# Altium footprint library 5200.PcbLib: 38 footprints (part 1 of 3)
Each footprint in its own frame and in the unit in brackets; x right, y up, seen from the top. Pads: shape width x height; smd on the part's side, far side on the other; paste and mask are expansions set on the pad; w line width, h text height; cw(c..) or ccw(c..) is an arc to the next point about the centre after c.
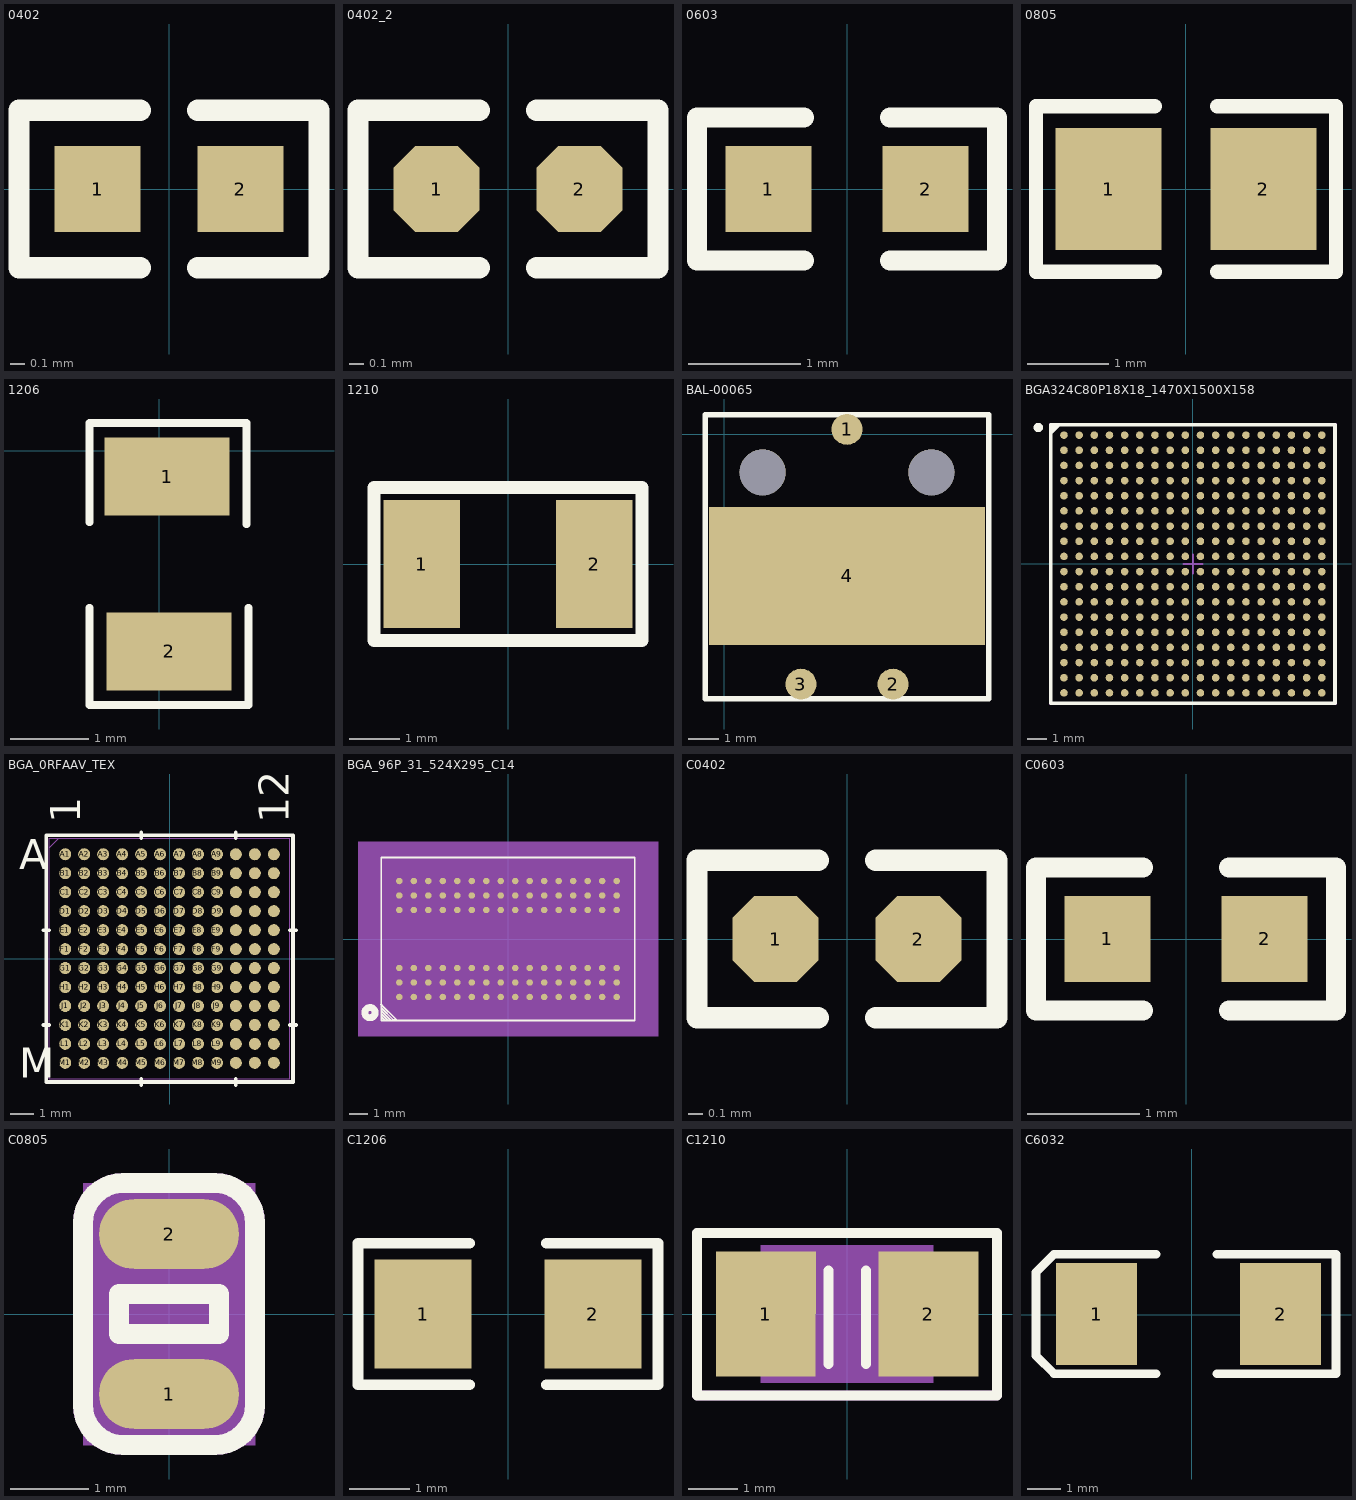
[diagram p0: the footprints below, top view; thin cyan lines are the x and y axes]

## 0402 [mm]
pads (2):
  rect 0.6x0.6 smd: 1(-0.5,0) 2(0.5,0)
Top Overlay:
  lines w0.15: -0.2,-0.55 -1.05,-0.55 -1.05,0.55 -0.2,0.55 ; 0.2,-0.55 1.05,-0.55 1.05,0.55 0.2,0.55

## 0402_2 [mm]
pads (2):
  oct 0.6x0.6 smd: 1(-0.5,0) 2(0.5,0)
Top Overlay:
  lines w0.15: -0.2,-0.55 -1.05,-0.55 -1.05,0.55 -0.2,0.55 ; 0.2,-0.55 1.05,-0.55 1.05,0.55 0.2,0.55

## 0603 [mil]
pads (2):
  rect 30x30 smd: 1(-27.5,0) 2(27.5,0)
Top Overlay:
  lines w7: -15,-25 -52.5,-25 -52.5,25 -15,25 ; 15,-25 52.5,-25 52.5,25 15,25

## 0805 [mm]
pads (2):
  rect 1.3x1.5 smd: 1(-0.95,0) 2(0.95,0)
Top Overlay:
  lines w0.178: -0.381,-1.019 -1.841,-1.019 -1.841,1.019 -0.381,1.019 ; 0.381,-1.019 1.842,-1.019 1.842,1.019 0.381,1.019

## 1206 [mm]
height 1.25
pads (2):
  rect 1.6x1 smd: 1(0.102,-0.33) 2(0.127,-2.565)
Top Overlay:
  lines w0.1: -0.889,-2.007 -0.889,-3.251 1.143,-3.251 1.143,-2.007 ; -0.889,-0.914 -0.889,0.356 1.118,0.356 1.118,-0.94

## 1210 [mil]
pads (2):
  rect 60x100 smd: 1(-67.5,0) 2(67.5,0)
Top Overlay:
  lines w10: -105,-60 105,-60 105,60 -105,60 -105,-60

## BAL-00065 [mil]
pads (6):
  round 40.2 smd mask+4: 1(160,6) 2(220,-326) 3(100,-326)
  rect 360x180 smd mask+4: 4(160,-185)
  round 60 hole 60 unplated mask+4: ""(50,-50) ""(270,-50)
Top Overlay:
  lines w7: -25,-345 -25,25 345,25 345,-345 -25,-345
Drill Drawing:
  lines w7: 0,-320 0,0 320,0 320,-320 0,-320

## BGA324C80P18X18_1470X1500X158 [mm] "BGA, 324-Leads, Body 14.7x15.0mm,  Pitch 0.80mm"
height 1.58
pads (324):
  round 0.4 smd: A1(-6.8,6.8) A2(-6,6.8) A3(-5.2,6.8) A4(-4.4,6.8) A5(-3.6,6.8) A6(-2.8,6.8) A7(-2,6.8) A8(-1.2,6.8) A9(-0.4,6.8) A10(0.4,6.8) A11(1.2,6.8) A12(2,6.8) A13(2.8,6.8) A14(3.6,6.8) A15(4.4,6.8) A16(5.2,6.8) A17(6,6.8) A18(6.8,6.8) B1(-6.8,6) B2(-6,6) B3(-5.2,6) B4(-4.4,6) B5(-3.6,6) B6(-2.8,6) B7(-2,6) B8(-1.2,6) B9(-0.4,6) B10(0.4,6) B11(1.2,6) B12(2,6) B13(2.8,6) B14(3.6,6) B15(4.4,6) B16(5.2,6) B17(6,6) B18(6.8,6) C1(-6.8,5.2) C2(-6,5.2) C3(-5.2,5.2) C4(-4.4,5.2) C5(-3.6,5.2) C6(-2.8,5.2) C7(-2,5.2) C8(-1.2,5.2) C9(-0.4,5.2) C10(0.4,5.2) C11(1.2,5.2) C12(2,5.2) C13(2.8,5.2) C14(3.6,5.2) C15(4.4,5.2) C16(5.2,5.2) C17(6,5.2) C18(6.8,5.2) D1(-6.8,4.4) D2(-6,4.4) D3(-5.2,4.4) D4(-4.4,4.4) D5(-3.6,4.4) D6(-2.8,4.4) D7(-2,4.4) D8(-1.2,4.4) D9(-0.4,4.4) D10(0.4,4.4) D11(1.2,4.4) D12(2,4.4) D13(2.8,4.4) D14(3.6,4.4) D15(4.4,4.4) D16(5.2,4.4) D17(6,4.4) D18(6.8,4.4) E1(-6.8,3.6) E2(-6,3.6) E3(-5.2,3.6) E4(-4.4,3.6) E5(-3.6,3.6) E6(-2.8,3.6) E7(-2,3.6) E8(-1.2,3.6) E9(-0.4,3.6) E10(0.4,3.6) E11(1.2,3.6) E12(2,3.6) E13(2.8,3.6) E14(3.6,3.6) E15(4.4,3.6) E16(5.2,3.6) E17(6,3.6) E18(6.8,3.6) F1(-6.8,2.8) F2(-6,2.8) F3(-5.2,2.8) F4(-4.4,2.8) F5(-3.6,2.8) F6(-2.8,2.8) F7(-2,2.8) F8(-1.2,2.8) F9(-0.4,2.8) F10(0.4,2.8) F11(1.2,2.8) F12(2,2.8) F13(2.8,2.8) F14(3.6,2.8) F15(4.4,2.8) F16(5.2,2.8) F17(6,2.8) F18(6.8,2.8) G1(-6.8,2) G2(-6,2) G3(-5.2,2) G4(-4.4,2) G5(-3.6,2) G6(-2.8,2) G7(-2,2) G8(-1.2,2) G9(-0.4,2) G10(0.4,2) G11(1.2,2) G12(2,2) G13(2.8,2) G14(3.6,2) G15(4.4,2) G16(5.2,2) G17(6,2) G18(6.8,2) H1(-6.8,1.2) H2(-6,1.2) H3(-5.2,1.2) H4(-4.4,1.2) H5(-3.6,1.2) H6(-2.8,1.2) H7(-2,1.2) H8(-1.2,1.2) H9(-0.4,1.2) H10(0.4,1.2) H11(1.2,1.2) H12(2,1.2) H13(2.8,1.2) H14(3.6,1.2) H15(4.4,1.2) H16(5.2,1.2) H17(6,1.2) H18(6.8,1.2) J1(-6.8,0.4) J2(-6,0.4) J3(-5.2,0.4) J4(-4.4,0.4) J5(-3.6,0.4) J6(-2.8,0.4) J7(-2,0.4) J8(-1.2,0.4) J9(-0.4,0.4) J10(0.4,0.4) J11(1.2,0.4) J12(2,0.4) J13(2.8,0.4) J14(3.6,0.4) J15(4.4,0.4) J16(5.2,0.4) J17(6,0.4) J18(6.8,0.4) K1(-6.8,-0.4) K2(-6,-0.4) K3(-5.2,-0.4) K4(-4.4,-0.4) K5(-3.6,-0.4) K6(-2.8,-0.4) K7(-2,-0.4) K8(-1.2,-0.4) K9(-0.4,-0.4) K10(0.4,-0.4) K11(1.2,-0.4) K12(2,-0.4) K13(2.8,-0.4) K14(3.6,-0.4) K15(4.4,-0.4) K16(5.2,-0.4) K17(6,-0.4) K18(6.8,-0.4) L1(-6.8,-1.2) L2(-6,-1.2) L3(-5.2,-1.2) L4(-4.4,-1.2) L5(-3.6,-1.2) L6(-2.8,-1.2) L7(-2,-1.2) L8(-1.2,-1.2) L9(-0.4,-1.2) L10(0.4,-1.2) L11(1.2,-1.2) L12(2,-1.2) L13(2.8,-1.2) L14(3.6,-1.2) L15(4.4,-1.2) L16(5.2,-1.2) L17(6,-1.2) L18(6.8,-1.2) M1(-6.8,-2) M2(-6,-2) M3(-5.2,-2) M4(-4.4,-2) M5(-3.6,-2) M6(-2.8,-2) M7(-2,-2) M8(-1.2,-2) M9(-0.4,-2) M10(0.4,-2) M11(1.2,-2) M12(2,-2) M13(2.8,-2) M14(3.6,-2) M15(4.4,-2) M16(5.2,-2) M17(6,-2) M18(6.8,-2) N1(-6.8,-2.8) N2(-6,-2.8) N3(-5.2,-2.8) N4(-4.4,-2.8) N5(-3.6,-2.8) N6(-2.8,-2.8) N7(-2,-2.8) N8(-1.2,-2.8) N9(-0.4,-2.8) N10(0.4,-2.8) N11(1.2,-2.8) N12(2,-2.8) N13(2.8,-2.8) N14(3.6,-2.8) N15(4.4,-2.8) N16(5.2,-2.8) N17(6,-2.8) N18(6.8,-2.8) P1(-6.8,-3.6) P2(-6,-3.6) P3(-5.2,-3.6) P4(-4.4,-3.6) P5(-3.6,-3.6) P6(-2.8,-3.6) P7(-2,-3.6) P8(-1.2,-3.6) P9(-0.4,-3.6) P10(0.4,-3.6) P11(1.2,-3.6) P12(2,-3.6) P13(2.8,-3.6) P14(3.6,-3.6) P15(4.4,-3.6) P16(5.2,-3.6) P17(6,-3.6) P18(6.8,-3.6) R1(-6.8,-4.4) R2(-6,-4.4) R3(-5.2,-4.4) R4(-4.4,-4.4) R5(-3.6,-4.4) R6(-2.8,-4.4) R7(-2,-4.4) R8(-1.2,-4.4) R9(-0.4,-4.4) R10(0.4,-4.4) R11(1.2,-4.4) R12(2,-4.4) R13(2.8,-4.4) R14(3.6,-4.4) R15(4.4,-4.4) R16(5.2,-4.4) R17(6,-4.4) R18(6.8,-4.4) T1(-6.8,-5.2) T2(-6,-5.2) T3(-5.2,-5.2) T4(-4.4,-5.2) T5(-3.6,-5.2) T6(-2.8,-5.2) T7(-2,-5.2) T8(-1.2,-5.2) T9(-0.4,-5.2) T10(0.4,-5.2) T11(1.2,-5.2) T12(2,-5.2) T13(2.8,-5.2) T14(3.6,-5.2) T15(4.4,-5.2) T16(5.2,-5.2) T17(6,-5.2) T18(6.8,-5.2) U1(-6.8,-6) U2(-6,-6) U3(-5.2,-6) U4(-4.4,-6) U5(-3.6,-6) U6(-2.8,-6) U7(-2,-6) U8(-1.2,-6) U9(-0.4,-6) U10(0.4,-6) U11(1.2,-6) U12(2,-6) U13(2.8,-6) U14(3.6,-6) U15(4.4,-6) U16(5.2,-6) U17(6,-6) U18(6.8,-6) V1(-6.8,-6.8) V2(-6,-6.8) V3(-5.2,-6.8) V4(-4.4,-6.8) V5(-3.6,-6.8) V6(-2.8,-6.8) V7(-2,-6.8) V8(-1.2,-6.8) V9(-0.4,-6.8) V10(0.4,-6.8) V11(1.2,-6.8) V12(2,-6.8) V13(2.8,-6.8) V14(3.6,-6.8) V15(4.4,-6.8) V16(5.2,-6.8) V17(6,-6.8) V18(6.8,-6.8)
Top Overlay:
  circle w0.25: c-8.15,7.2 r0.125
  region: -7.057,7.35 -7.5,6.907 -7.5,7.35
  lines w0.2: -7.5,6.907 -7.057,7.35 ; -7.5,-7.35 -7.5,7.35 7.5,7.35 7.5,-7.35 -7.5,-7.35
Mechanical 13:
  lines w0.1: -7.5,-7.35 -7.5,7.35 7.5,7.35 7.5,-7.35 -7.5,-7.35
Mechanical 15:
  lines w0.1: -0.5,0 0.5,0 ; 0,-0.5 0,0.5 ; -7.55,-7.4 -7.55,7.4 7.55,7.4 7.55,-7.4 -7.55,-7.4
3D body: height 1.58, standoff 0.35, extent -7.5,-7.35 7.5,7.35

## BGA_0RFAAV_TEX [mm]
pads (144):
  round 0.508 smd paste+0 mask+0: A1(-4.4,4.4) A2(-3.6,4.4) A3(-2.8,4.4) A4(-2,4.4) A5(-1.2,4.4) A6(-0.4,4.4) A7(0.4,4.4) A8(1.2,4.4) A9(2,4.4) A10(2.8,4.4) A11(3.6,4.4) A12(4.4,4.4) B1(-4.4,3.6) B2(-3.6,3.6) B3(-2.8,3.6) B4(-2,3.6) B5(-1.2,3.6) B6(-0.4,3.6) B7(0.4,3.6) B8(1.2,3.6) B9(2,3.6) B10(2.8,3.6) B11(3.6,3.6) B12(4.4,3.6) C1(-4.4,2.8) C2(-3.6,2.8) C3(-2.8,2.8) C4(-2,2.8) C5(-1.2,2.8) C6(-0.4,2.8) C7(0.4,2.8) C8(1.2,2.8) C9(2,2.8) C10(2.8,2.8) C11(3.6,2.8) C12(4.4,2.8) D1(-4.4,2) D2(-3.6,2) D3(-2.8,2) D4(-2,2) D5(-1.2,2) D6(-0.4,2) D7(0.4,2) D8(1.2,2) D9(2,2) D10(2.8,2) D11(3.6,2) D12(4.4,2) E1(-4.4,1.2) E2(-3.6,1.2) E3(-2.8,1.2) E4(-2,1.2) E5(-1.2,1.2) E6(-0.4,1.2) E7(0.4,1.2) E8(1.2,1.2) E9(2,1.2) E10(2.8,1.2) E11(3.6,1.2) E12(4.4,1.2) F1(-4.4,0.4) F2(-3.6,0.4) F3(-2.8,0.4) F4(-2,0.4) F5(-1.2,0.4) F6(-0.4,0.4) F7(0.4,0.4) F8(1.2,0.4) F9(2,0.4) F10(2.8,0.4) F11(3.6,0.4) F12(4.4,0.4) G1(-4.4,-0.4) G2(-3.6,-0.4) G3(-2.8,-0.4) G4(-2,-0.4) G5(-1.2,-0.4) G6(-0.4,-0.4) G7(0.4,-0.4) G8(1.2,-0.4) G9(2,-0.4) G10(2.8,-0.4) G11(3.6,-0.4) G12(4.4,-0.4) H1(-4.4,-1.2) H2(-3.6,-1.2) H3(-2.8,-1.2) H4(-2,-1.2) H5(-1.2,-1.2) H6(-0.4,-1.2) H7(0.4,-1.2) H8(1.2,-1.2) H9(2,-1.2) H10(2.8,-1.2) H11(3.6,-1.2) H12(4.4,-1.2) J1(-4.4,-2) J2(-3.6,-2) J3(-2.8,-2) J4(-2,-2) J5(-1.2,-2) J6(-0.4,-2) J7(0.4,-2) J8(1.2,-2) J9(2,-2) J10(2.8,-2) J11(3.6,-2) J12(4.4,-2) K1(-4.4,-2.8) K2(-3.6,-2.8) K3(-2.8,-2.8) K4(-2,-2.8) K5(-1.2,-2.8) K6(-0.4,-2.8) K7(0.4,-2.8) K8(1.2,-2.8) K9(2,-2.8) K10(2.8,-2.8) K11(3.6,-2.8) K12(4.4,-2.8) L1(-4.4,-3.6) L2(-3.6,-3.6) L3(-2.8,-3.6) L4(-2,-3.6) L5(-1.2,-3.6) L6(-0.4,-3.6) L7(0.4,-3.6) L8(1.2,-3.6) L9(2,-3.6) L10(2.8,-3.6) L11(3.6,-3.6) L12(4.4,-3.6) M1(-4.4,-4.4) M2(-3.6,-4.4) M3(-2.8,-4.4) M4(-2,-4.4) M5(-1.2,-4.4) M6(-0.4,-4.4) M7(0.4,-4.4) M8(1.2,-4.4) M9(2,-4.4) M10(2.8,-4.4) M11(3.6,-4.4) M12(4.4,-4.4)
Top Overlay:
  lines w0.152: -5.334,-2.8 -5.08,-2.8 ; -5.334,1.2 -5.08,1.2 ; -1.2,-5.334 -1.2,-5.08 ; -1.2,5.08 -1.2,5.334 ; 2.8,-5.334 2.8,-5.08 ; 2.8,5.08 2.8,5.334 ; 5.08,-2.8 5.334,-2.8 ; 5.08,1.2 5.334,1.2 ; -5.207,-5.207 5.207,-5.207 5.207,5.207 -5.207,5.207 -5.207,-5.207
  text "12" at 5.035,5.715 h1.27
  text "1" at -3.765,5.715 h1.27
  text "M" at -6.35,-5.035 h1.27
  text "A" at -6.35,3.765 h1.27
Bottom Overlay:
  text "12" at 3.765,5.715 h1.27
  text "1" at -5.035,5.715 h1.27
  text "M" at -5.715,-5.035 h1.27
  text "A" at -5.715,3.765 h1.27
Mechanical 13:
  lines w0.025: -5.08,4.68 -4.68,5.08 ; -5.08,-5.08 5.08,-5.08 5.08,5.08 -5.08,5.08 -5.08,-5.08
  text "12" at 5.035,5.715 h1.27
  text "1" at -3.765,5.715 h1.27
  text "M" at -6.35,-5.035 h1.27
  text "A" at -6.35,3.765 h1.27
3D body: height 1.93, standoff 0, extent -5.08,-5.08 5.08,5.08

## BGA_96P_31_524X295_C14 [mil] "BGA_96P_31_524X295_C14"
pads (96):
  round 14 smd: A1(-236.22,-125.98) A2(-236.22,-94.49) A3(-236.22,-62.99) A7(-236.22,62.99) A8(-236.22,94.49) A9(-236.22,125.98) B1(-204.72,-125.98) B2(-204.72,-94.49) B3(-204.72,-62.99) B7(-204.72,62.99) B8(-204.72,94.49) B9(-204.72,125.98) C1(-173.23,-125.98) C2(-173.23,-94.49) C3(-173.23,-62.99) C7(-173.23,62.99) C8(-173.23,94.49) C9(-173.23,125.98) D1(-141.73,-125.98) D2(-141.73,-94.49) D3(-141.73,-62.99) D7(-141.73,62.99) D8(-141.73,94.49) D9(-141.73,125.98) E1(-110.24,-125.98) E2(-110.24,-94.49) E3(-110.24,-62.99) E7(-110.24,62.99) E8(-110.24,94.49) E9(-110.24,125.98) F1(-78.74,-125.98) F2(-78.74,-94.49) F3(-78.74,-62.99) F7(-78.74,62.99) F8(-78.74,94.49) F9(-78.74,125.98) G1(-47.24,-125.98) G2(-47.24,-94.49) G3(-47.24,-62.99) G7(-47.24,62.99) G8(-47.24,94.49) G9(-47.24,125.98) H1(-15.75,-125.98) H2(-15.75,-94.49) H3(-15.75,-62.99) H7(-15.75,62.99) H8(-15.75,94.49) H9(-15.75,125.98) J1(15.75,-125.98) J2(15.75,-94.49) J3(15.75,-62.99) J7(15.75,62.99) J8(15.75,94.49) J9(15.75,125.98) K1(47.24,-125.98) K2(47.24,-94.49) K3(47.24,-62.99) K7(47.24,62.99) K8(47.24,94.49) K9(47.24,125.98) L1(78.74,-125.98) L2(78.74,-94.49) L3(78.74,-62.99) L7(78.74,62.99) L8(78.74,94.49) L9(78.74,125.98) M1(110.24,-125.98) M2(110.24,-94.49) M3(110.24,-62.99) M7(110.24,62.99) M8(110.24,94.49) M9(110.24,125.98) N1(141.73,-125.98) N2(141.73,-94.49) N3(141.73,-62.99) N7(141.73,62.99) N8(141.73,94.49) N9(141.73,125.98) P1(173.23,-125.98) P2(173.23,-94.49) P3(173.23,-62.99) P7(173.23,62.99) P8(173.23,94.49) P9(173.23,125.98) R1(204.72,-125.98) R2(204.72,-94.49) R3(204.72,-62.99) R7(204.72,62.99) R8(204.72,94.49) R9(204.72,125.98) T1(236.22,-125.98) T2(236.22,-94.49) T3(236.22,-62.99) T7(236.22,62.99) T8(236.22,94.49) T9(236.22,125.98)
Top Overlay:
  circle w15: c-300,-160 r11.18
  lines w3.94: -275.98,-142.52 -275.2,-142.52 -241.73,-175.98 -248.82,-175.98 -275.2,-149.61 -275.2,-156.3 -255.12,-176.38 -261.42,-176.38 -274.41,-163.39 -274.41,-170.08 -268.11,-176.38 ; -275.59,-177.16 -275.59,177.16 275.59,177.16 275.59,-177.16 -275.59,-177.16
  text ".Designator" at -306.92,-65.62 h25
Mechanical 5:
  circle w15: c-300,-160 r11.18
  lines w3.94: -275.98,-142.52 -275.2,-142.52 -241.73,-175.98 -248.82,-175.98 -275.2,-149.61 -275.2,-156.3 -255.12,-176.38 -261.42,-176.38 -274.41,-163.39 -274.41,-170.08 -268.11,-176.38 ; -275.59,-177.16 -275.59,177.16 275.59,177.16 275.59,-177.16 -275.59,-177.16
  text "U4" at -362.51,27.5 h25
Mechanical 14:
  text "T9" at 236.22,146.14 h25.2
  text "P9" at 173.23,146.14 h25.2
  text "M9" at 110.24,146.14 h25.2
  text "J8" at 15.75,114.65 h25.2
  text "T1" at 236.22,-105.82 h25.2
  text "P1" at 173.23,-105.82 h25.2
  text "M1" at 110.24,-105.82 h25.2
  text "J2" at 15.75,-74.33 h25.2
  text "A9" at -236.22,146.14 h25.2
  text "B9" at -204.72,146.14 h25.2
  text "B3" at -204.72,-42.83 h25.2
  text "G8" at -47.24,114.65 h25.2
  text "G9" at -47.24,146.14 h25.2
  text "F9" at -78.74,146.14 h25.2
  text "E8" at -110.24,114.65 h25.2
  text "D8" at -141.73,114.65 h25.2
  text "G1" at -47.24,-105.82 h25.2
  text "E1" at -110.24,-105.82 h25.2
  text "E2" at -110.24,-74.33 h25.2
  text "D1" at -141.73,-105.82 h25.2
  text "B1" at -204.72,-105.82 h25.2
  text "L9" at 78.74,146.14 h25.2
  text "L1" at 78.74,-105.82 h25.2
  text "J9" at 15.75,146.14 h25.2
  text "J1" at 15.75,-105.82 h25.2
  text "B7" at -204.72,83.15 h25.2
  text "F3" at -78.74,-42.83 h25.2
  text "P8" at 173.23,114.65 h25.2
  text "H3" at -15.75,-42.83 h25.2
  text "P2" at 173.23,-74.33 h25.2
  text "E3" at -110.24,-42.83 h25.2
  text "A3" at -236.22,-42.83 h25.2
  text "A7" at -236.22,83.15 h25.2
  text "F8" at -78.74,114.65 h25.2
  text "R3" at 204.72,-42.83 h25.2
  text "N7" at 141.73,83.15 h25.2
  text "F7" at -78.74,83.15 h25.2
  text "M7" at 110.24,83.15 h25.2
  text "C3" at -173.23,-42.83 h25.2
  text "D7" at -141.73,83.15 h25.2
  text "T8" at 236.22,114.65 h25.2
  text "P7" at 173.23,83.15 h25.2
  text "T3" at 236.22,-42.83 h25.2
  text "C2" at -173.23,-74.33 h25.2
  text "N2" at 141.73,-74.33 h25.2
  text "G2" at -47.24,-74.33 h25.2
  text "A2" at -236.22,-74.33 h25.2
  text "H7" at -15.75,83.15 h25.2
  text "R8" at 204.72,114.65 h25.2
  text "N3" at 141.73,-42.83 h25.2
  text "F2" at -78.74,-74.33 h25.2
  text "C8" at -173.23,114.65 h25.2
  text "P3" at 173.23,-42.83 h25.2
  text "T2" at 236.22,-74.33 h25.2
  text "B8" at -204.72,114.65 h25.2
  text "H8" at -15.75,114.65 h25.2
  text "L7" at 78.74,83.15 h25.2
  text "R7" at 204.72,83.15 h25.2
  text "R2" at 204.72,-74.33 h25.2
  text "T7" at 236.22,83.15 h25.2
  text "K1" at 47.24,-105.82 h25.2
  text "G3" at -47.24,-42.83 h25.2
  text "C7" at -173.23,83.15 h25.2
  text "L8" at 78.74,114.65 h25.2
  text "N8" at 141.73,114.65 h25.2
  text "L2" at 78.74,-74.33 h25.2
  text "M3" at 110.24,-42.83 h25.2
  text "L3" at 78.74,-42.83 h25.2
  text "J3" at 15.75,-42.83 h25.2
  text "K7" at 47.24,83.15 h25.2
  text "J7" at 15.75,83.15 h25.2
  text "K3" at 47.24,-42.83 h25.2
  text "K9" at 47.24,146.14 h25.2
  text "M2" at 110.24,-74.33 h25.2
  text "E7" at -110.24,83.15 h25.2
  text "D3" at -141.73,-42.83 h25.2
  text "M8" at 110.24,114.65 h25.2
  text "H1" at -15.75,-105.82 h25.2
  text "N9" at 141.73,146.14 h25.2
  text "N1" at 141.73,-105.82 h25.2
  text "K2" at 47.24,-74.33 h25.2
  text "H9" at -15.75,146.14 h25.2
  text "G7" at -47.24,83.15 h25.2
  text "A8" at -236.22,114.65 h25.2
  text "C9" at -173.23,146.14 h25.2
  text "D9" at -141.73,146.14 h25.2
  text "E9" at -110.24,146.14 h25.2
  text "K8" at 47.24,114.65 h25.2
  text "H2" at -15.75,-74.33 h25.2
  text "C1" at -173.23,-105.82 h25.2
  text "B2" at -204.72,-74.33 h25.2
  text "A1" at -236.22,-105.82 h25.2
  text "D2" at -141.73,-74.33 h25.2
  text "F1" at -78.74,-105.82 h25.2
  text "R9" at 204.72,146.14 h25.2
  text "R1" at 204.72,-105.82 h25.2
Mechanical 16:
  pour cut-out: -325.98,-211.81 325.98,-211.81 325.98,211.81 -325.98,211.81
  region: -285,-185 285,-185 285,185 -285,185
3D body: height 150, standoff 0, extent -285,-185 285,185

## C0402 [mm]
pads (2):
  oct 0.6x0.6 smd: 1(-0.5,0) 2(0.5,0)
Top Overlay:
  lines w0.15: -0.2,-0.55 -1.05,-0.55 -1.05,0.55 -0.2,0.55 ; 0.2,-0.55 1.05,-0.55 1.05,0.55 0.2,0.55

## C0603 [mil]
height 295.28
pads (2):
  rect 30x30 smd: 1(-27.5,0) 2(27.5,0)
Top Overlay:
  lines w7: -15,-25 -52.5,-25 -52.5,25 -15,25 ; 15,-25 52.5,-25 52.5,25 15,25

## C0805 [mil] "C0805"
pads (2):
  oval 70x35 smd: 1(0,-40) 2(0,40)
Top Overlay:
  lines w10: -43,-45.5 ccw(c-23,-45.5) -23,-65.5 23,-65.5 ccw(c23,-45.5) 43,-45.5 43,45.5 ccw(c23,45.5) 23,65.5 -23,65.5 ccw(c-23,45.5) -43,45.5 -43,-45.5 ; -25,-10 -25,10 25,10 25,-10 -25,-10
  text ".Designator" at -66.75,-66.25 h25
Mechanical 5:
  lines w10: -39.99,-56.04 cw(c-23,-45.49) -43,-45.5 -43,45.5 cw(c-23,45.49) -39.99,56.04 ; -33.54,-62.49 ccw(c-22.99,-45.5) -23,-65.5 23,-65.5 ccw(c22.99,-45.5) 33.54,-62.49 ; -33.54,62.49 cw(c-22.99,45.5) -23,65.5 23,65.5 cw(c22.99,45.5) 33.54,62.49 ; 39.99,-56.04 ccw(c23,-45.49) 43,-45.5 43,45.5 ccw(c23,45.49) 39.99,56.04 ; -25,-10 25,-10 25,10 -25,10 -25,-10
  text "C2647" at -66.75,-31.25 h25
Mechanical 14:
  text "2" at 0,28.8 h28
  text "1" at 0,-51.2 h28
Mechanical 16:
  pour cut-out: -43,-65.5 43,-65.5 43,65.5 -43,65.5
  region: -24.61,-39.37 24.61,-39.37 24.61,39.37 -24.61,39.37
  lines w1: -24.61,-39.37 -24.61,39.37 24.61,39.37 24.61,-39.37 -24.61,-39.37
3D body: height 150, standoff 0, extent -24.61,-39.37 24.61,39.37

## C1206 [mm]
height 7.5
pads (2):
  rect 1.6x1.8 smd: 1(-1.4,0) 2(1.4,0)
Top Overlay:
  lines w0.178: -0.635,-1.168 -2.476,-1.168 -2.476,1.168 -0.635,1.168 ; 0.635,-1.168 2.476,-1.168 2.476,1.168 0.635,1.168

## C1210 [mil] "C1210"
pads (2):
  rect 80x100 smd: 1(-65,0) 2(65,0)
Top Overlay:
  lines w8: -15,-40 -15,35 ; 15,-40 15,35 ; -120,-65 120,-65 120,65 -120,65 -120,-65
Mechanical 5:
  lines w8: -15,-40 -15,35 ; 15,-40 15,35 ; -120,-65 120,-65 120,65 -120,65 -120,-65
  text "CD1" at 27.51,-82.5 h25
Mechanical 14:
  text "2" at 97,0 h80
  text "1" at -33,0 h80
Mechanical 16:
  region: -69,-55 69,-55 69,55 -69,55
3D body: height 150, standoff 0, extent -69,-55 69,55

## C6032 [mil]
height 98.43
pads (2):
  rect 95x120 smd: 1(-112,1) 2(104,1)
Top Overlay:
  lines w10: -42,-69 -156,-69 -162,-69 -183,-48 -183,50 -163,70 -162,71 -42,71 ; 29,-69 169,-69 169,71 29,71
3D body: height 102.36, standoff 0, extent -121.11,-61.99 115.11,63.99